# Altium integrated library TI Amplifiers and Linear Special Function Amplifier.IntLib: 708 symbols (part 45 of 47)
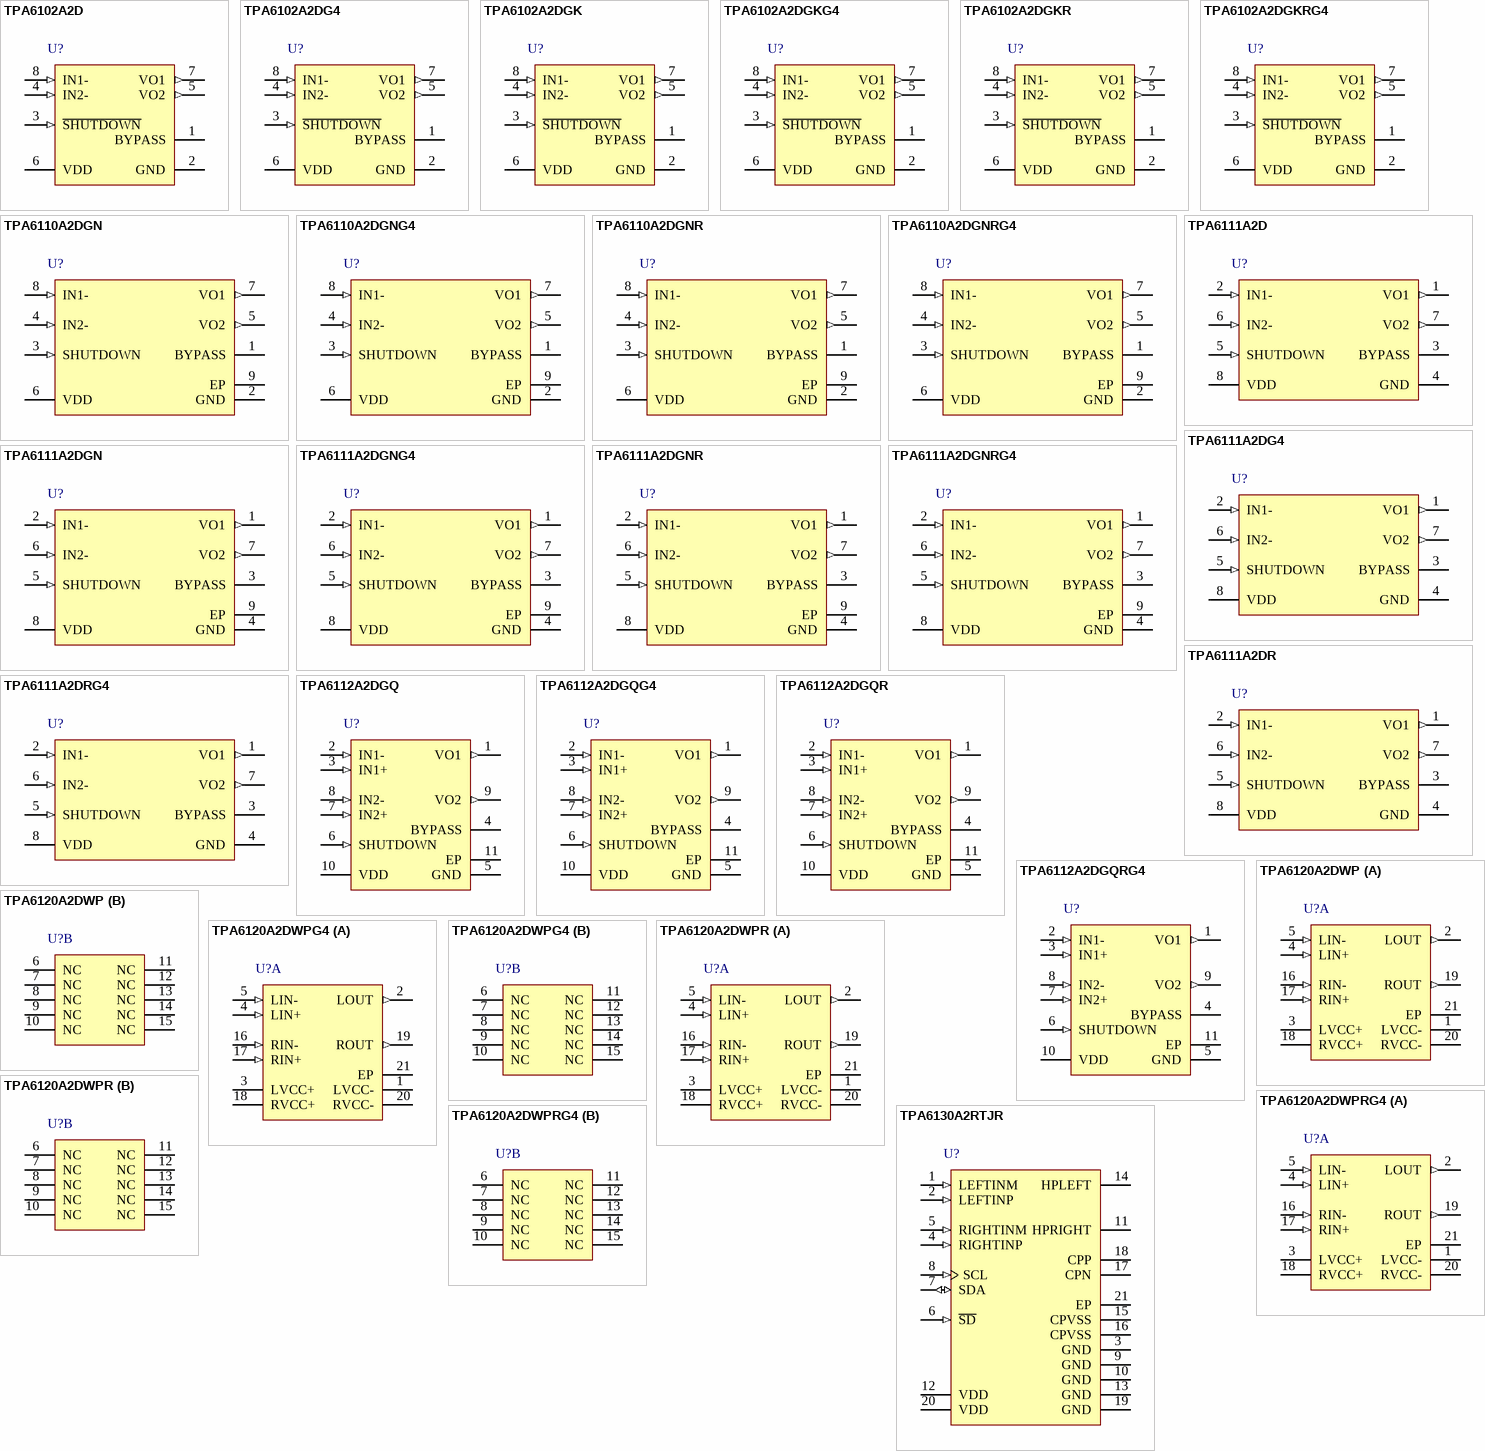
[diagram p83: symbols TPA6102A2D to TPA6130A2RTJR]

## TPA6130A2RTJR
designator U?
138-mW DirectPath(TM) Stereo Headphone Amplifier with I2C Volume Control, -40 to 85 degC, 20-pin QFN (RTJ20), Green (RoHS & no Sb/Br); Manufacturer: Texas Instruments; PartNumber: TPA6130A2RTJR; Ground-Centered Outputs: Yes; Half Power THD + N @ 1 kHz (%)(kHz): 0.0055; ISD(uA): 0.4; Load(Min)(ohms): 16; Output Power(W): 0.138; PSRR(dB): -109; Supply Max(Max)(Volt): 5.5; Supply Min(Min)(Volt): 2.5; DatasheetVersion: SLOS488B; PackageVersion: 4205505/F, 07/2011; PackageReference: RTJ20-2700X2700TP; PackageDescription: 20-pin Plastic Flat Pack, Body 4 x 4 mm, Pitch 0.5 mm; Supplier 1: Digi-Key; Supplier Part Number 1: 296-21656-2-ND; Supplier 2: Digi-Key; Supplier Part Number 2: 296-21656-1-ND; Supplier 3: Digi-Key; Supplier Part Number 3: 296-21656-6-ND; Supplier 4: Farnell; Supplier Part Number 4: 1697156; Supplier 5: Newark; Supplier Part Number 5: 34M0132; Supplier 6: Newark; Supplier Part Number 6: 28X4490; Supplier 7: Mouser; Supplier Part Number 7: 595-TPA6130A2RTJR; Eco-Plan: Green (RoHS & no Sb/Br); Headphone Channels: Stereo; SubFamily: Headphone Amplifier; Volume Control: Yes; Mounting Technology: Surface Mount; ComponentLink1Description: Manufacturer URL; ComponentLink1URL: http://www.ti.com/; ComponentLink2Description: Datasheet; ComponentLink2URL: http://www.ti.com/general/docs/lit/getliterature.tsp?genericPartNumber=TPA6130A2&fileType=pdf; ComponentLink3Description: Package Specification; ComponentLink3URL: http://www.ti.com/litv/pdf/mpqf156e
footprint TI-RTJ20-2700X2700TP_V (QFN, 20-Leads, Body 4x4mm, Pitch 0.5mm, Thermal Pad 2.7x2.7mm)
pins: 1 LEFTINM (in) "Left channel negative differential input. Impedance must be matched to LEFTINP. Connect the left input to LEFTINM when using single-ended inputs.", 2 LEFTINP (in) "Left channel positive differential input. Impedance must be matched to LEFTINM. AC ground LEFTINP near signal source while maintaining matched impedance to LEFTINM when using single-ended inputs.", 3 GND (power) "Analog ground. Must be connected to common supply GND. It is recommended that this pin be used to decouple VDD for analog. Use pin 13 to decouple pin 12 on the QFN package.", 4 RIGHTINP (in) "Right channel positive differential input. Impedance must be matched to RIGHTINM. AC ground RIGHTINP near signal source while maintaining matched impedance to RIGHTINM when using single-ended inputs.", 5 RIGHTINM (in) "Right channel negative differential input. Impedance must be matched to RIGHTINP. Connect the right input to RIGHTINM when using single-ended inputs.", 6 ~{SD} (in) "Shutdown. Active low logic. 5V tolerant input.", 7 SDA (io) "SDA - I2C Data. 5V tolerant input.", 8 SCL (in) "SCL - I2C Clock. 5V tolerant input.", 9 GND (power) "Analog ground. Must be connected to common supply GND. It is recommended that this pin be used to decouple VDD for analog. Use pin 13 to decouple pin 12 on the QFN package.", 10 GND (power) "Analog ground. Must be connected to common supply GND. It is recommended that this pin be used to decouple VDD for analog. Use pin 13 to decouple pin 12 on the QFN package.", 11 HPRIGHT (hiz) "Headphone light channel output. Connect to the right terminal of the headphone jack.", 12 VDD (power) "Analog VDD. VDD must be connected to common VDD supply. Decouple with its own 1-uf capacitor to analog ground (pin 13 on the QFN).", 13 GND (power) "Analog ground. Must be connected to common supply GND. It is recommended that this pin be used to decouple VDD for analog. Use pin 13 to decouple pin 12 on the QFN package.", 14 HPLEFT (hiz) "Headphone left channel output. Connect to left terminal of headphone jack.", 15 CPVSS (power) "Negative supply generated by the charge pump. Decouple to pin 19 on the QFN or a GND plane. Use a 1 uF capacitor.", 16 CPVSS (power) "Negative supply generated by the charge pump. Decouple to pin 19 on the QFN or a GND plane. Use a 1 uF capacitor.", 17 CPN "Charge pump flying capacitor negative terminal. Connect one side of the flying capacitor to CPN.", 18 CPP "Charge pump flying capacitor positive terminal. Connect one side of the flying capacitor to CPP.", 19 GND (power) "Charge pump ground. GND must be connected to common supply GND. It is recommended that this pin be decoupled to the VDD of the charge pump pin (pin 20 on the QFN).", 20 VDD (power) "Charge pump voltage supply. VDD must be connected to the common VDD voltage supply. Decouple to GND (pin 19 on the QFN) with its own 1 uF capacitor.", 21 EP (power) "Solder the thermal pad on the bottom of the QFN package to the GND plane of the PCB. It is required for mechanical stability and will enhance thermal performance."

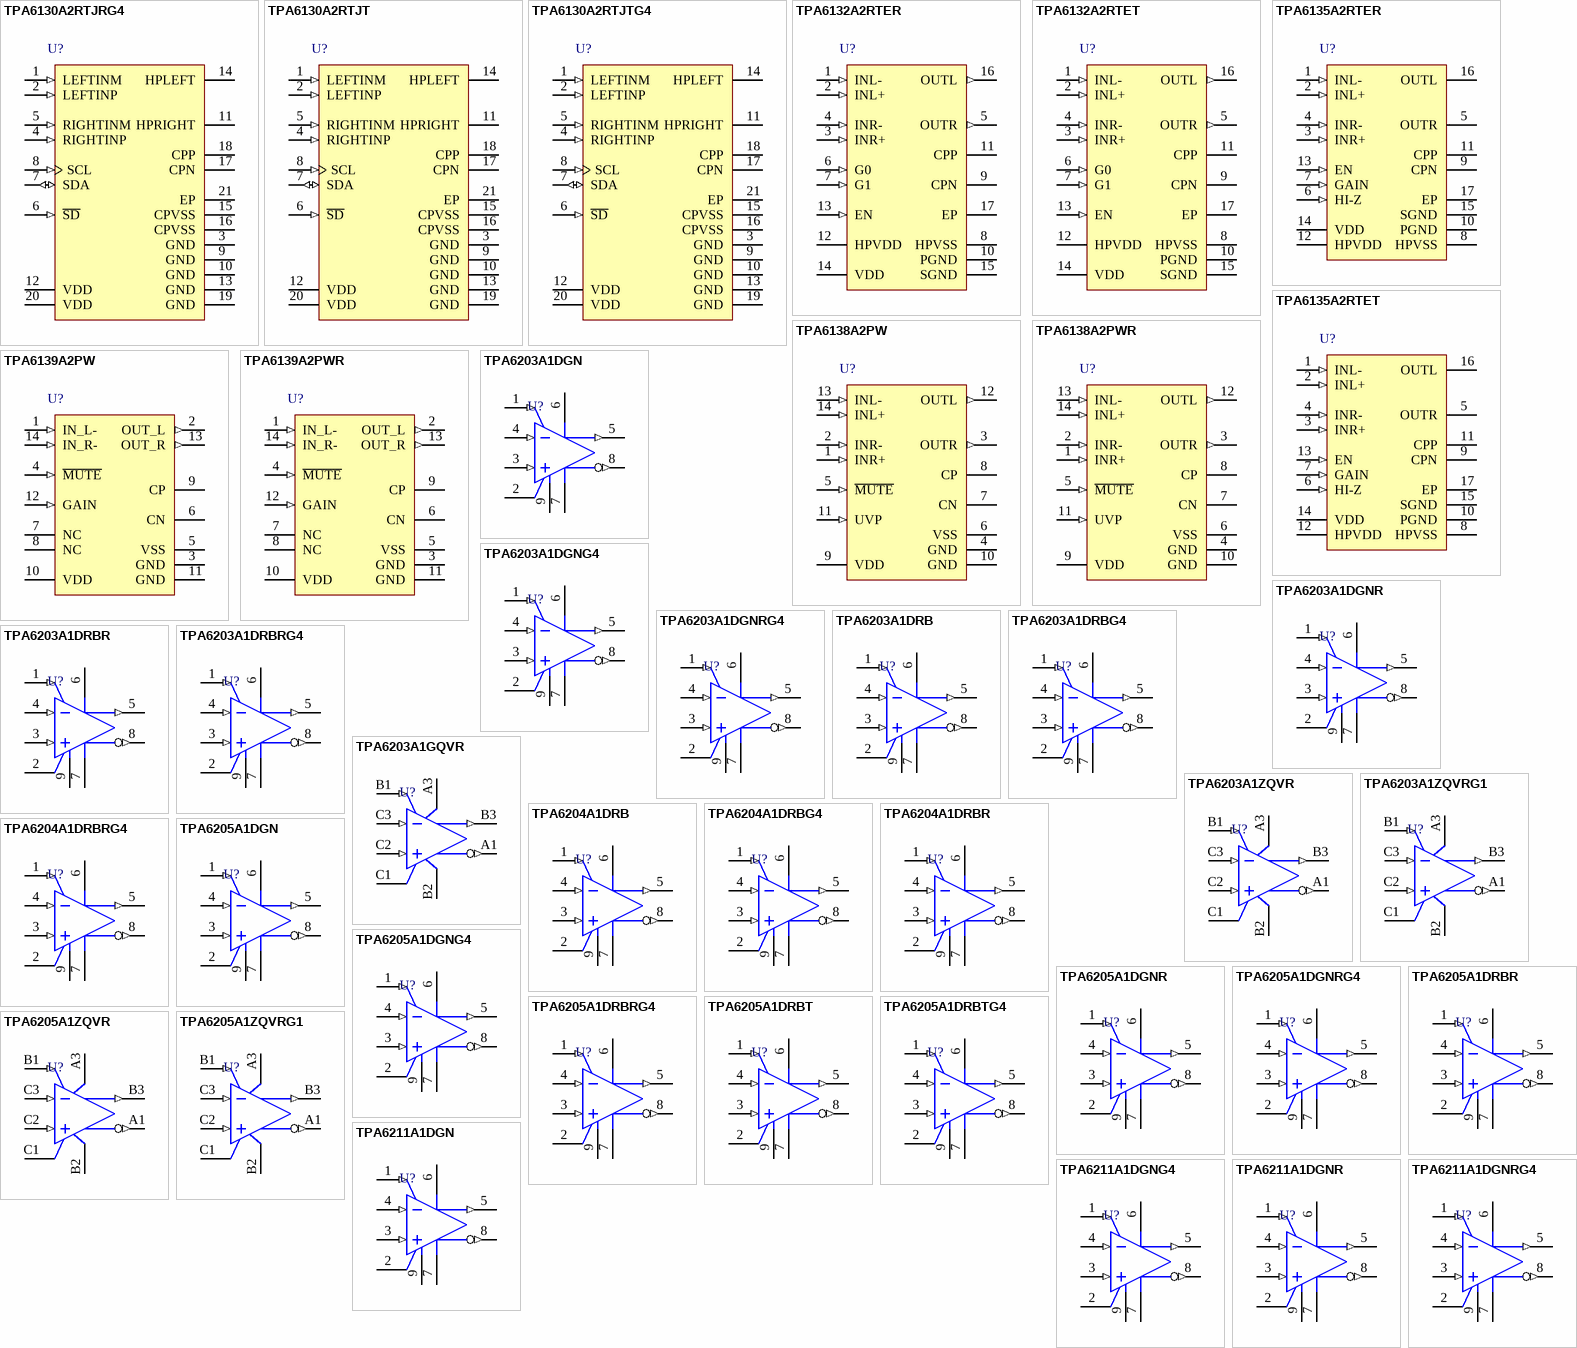
[diagram p38: symbols TPA6130A2RTJRG4 to TPA6211A1DGNRG4]

## TPA6130A2RTJRG4
designator U?
138-mW DirectPath(TM) Stereo Headphone Amplifier with I2C Volume Control, -40 to 85 degC, 20-pin QFN (RTJ20), Green (RoHS & no Sb/Br); Manufacturer: Texas Instruments; PartNumber: TPA6130A2RTJRG4; Ground-Centered Outputs: Yes; Half Power THD + N @ 1 kHz (%)(kHz): 0.0055; ISD(uA): 0.4; Load(Min)(ohms): 16; Output Power(W): 0.138; PSRR(dB): -109; Supply Max(Max)(Volt): 5.5; Supply Min(Min)(Volt): 2.5; DatasheetVersion: SLOS488B; PackageVersion: 4205505/F, 07/2011; PackageReference: RTJ20-2700X2700TP; PackageDescription: 20-pin Plastic Flat Pack, Body 4 x 4 mm, Pitch 0.5 mm; Supplier 1: Digi-Key; Supplier Part Number 1: TPA6130A2RTJRG4-ND; Supplier 2: Newark; Supplier Part Number 2: 41M5837; Supplier 3: Mouser; Supplier Part Number 3: 595-TPA6130A2RTJRG4; Eco-Plan: Green (RoHS & no Sb/Br); Headphone Channels: Stereo; SubFamily: Headphone Amplifier; Volume Control: Yes; Mounting Technology: Surface Mount; ComponentLink1Description: Manufacturer URL; ComponentLink1URL: http://www.ti.com/; ComponentLink2Description: Datasheet; ComponentLink2URL: http://www.ti.com/general/docs/lit/getliterature.tsp?genericPartNumber=TPA6130A2&fileType=pdf; ComponentLink3Description: Package Specification; ComponentLink3URL: http://www.ti.com/litv/pdf/mpqf156e
footprint TI-RTJ20-2700X2700TP_V (QFN, 20-Leads, Body 4x4mm, Pitch 0.5mm, Thermal Pad 2.7x2.7mm)
pins: 1 LEFTINM (in) "Left channel negative differential input. Impedance must be matched to LEFTINP. Connect the left input to LEFTINM when using single-ended inputs.", 2 LEFTINP (in) "Left channel positive differential input. Impedance must be matched to LEFTINM. AC ground LEFTINP near signal source while maintaining matched impedance to LEFTINM when using single-ended inputs.", 3 GND (power) "Analog ground. Must be connected to common supply GND. It is recommended that this pin be used to decouple VDD for analog. Use pin 13 to decouple pin 12 on the QFN package.", 4 RIGHTINP (in) "Right channel positive differential input. Impedance must be matched to RIGHTINM. AC ground RIGHTINP near signal source while maintaining matched impedance to RIGHTINM when using single-ended inputs.", 5 RIGHTINM (in) "Right channel negative differential input. Impedance must be matched to RIGHTINP. Connect the right input to RIGHTINM when using single-ended inputs.", 6 ~{SD} (in) "Shutdown. Active low logic. 5V tolerant input.", 7 SDA (io) "SDA - I2C Data. 5V tolerant input.", 8 SCL (in) "SCL - I2C Clock. 5V tolerant input.", 9 GND (power) "Analog ground. Must be connected to common supply GND. It is recommended that this pin be used to decouple VDD for analog. Use pin 13 to decouple pin 12 on the QFN package.", 10 GND (power) "Analog ground. Must be connected to common supply GND. It is recommended that this pin be used to decouple VDD for analog. Use pin 13 to decouple pin 12 on the QFN package.", 11 HPRIGHT (hiz) "Headphone light channel output. Connect to the right terminal of the headphone jack.", 12 VDD (power) "Analog VDD. VDD must be connected to common VDD supply. Decouple with its own 1-uf capacitor to analog ground (pin 13 on the QFN).", 13 GND (power) "Analog ground. Must be connected to common supply GND. It is recommended that this pin be used to decouple VDD for analog. Use pin 13 to decouple pin 12 on the QFN package.", 14 HPLEFT (hiz) "Headphone left channel output. Connect to left terminal of headphone jack.", 15 CPVSS (power) "Negative supply generated by the charge pump. Decouple to pin 19 on the QFN or a GND plane. Use a 1 uF capacitor.", 16 CPVSS (power) "Negative supply generated by the charge pump. Decouple to pin 19 on the QFN or a GND plane. Use a 1 uF capacitor.", 17 CPN "Charge pump flying capacitor negative terminal. Connect one side of the flying capacitor to CPN.", 18 CPP "Charge pump flying capacitor positive terminal. Connect one side of the flying capacitor to CPP.", 19 GND (power) "Charge pump ground. GND must be connected to common supply GND. It is recommended that this pin be decoupled to the VDD of the charge pump pin (pin 20 on the QFN).", 20 VDD (power) "Charge pump voltage supply. VDD must be connected to the common VDD voltage supply. Decouple to GND (pin 19 on the QFN) with its own 1 uF capacitor.", 21 EP (power) "Solder the thermal pad on the bottom of the QFN package to the GND plane of the PCB. It is required for mechanical stability and will enhance thermal performance."

## TPA6130A2RTJT
designator U?
138-mW DirectPath(TM) Stereo Headphone Amplifier with I2C Volume Control, -40 to 85 degC, 20-pin QFN (RTJ20), Green (RoHS & no Sb/Br); Manufacturer: Texas Instruments; PartNumber: TPA6130A2RTJT; Ground-Centered Outputs: Yes; Half Power THD + N @ 1 kHz (%)(kHz): 0.0055; ISD(uA): 0.4; Load(Min)(ohms): 16; Output Power(W): 0.138; PSRR(dB): -109; Supply Max(Max)(Volt): 5.5; Supply Min(Min)(Volt): 2.5; DatasheetVersion: SLOS488B; PackageVersion: 4205505/F, 07/2011; PackageReference: RTJ20-2700X2700TP; PackageDescription: 20-pin Plastic Flat Pack, Body 4 x 4 mm, Pitch 0.5 mm; Supplier 1: Digi-Key; Supplier Part Number 1: TPA6130A2RTJT-ND; Supplier 2: Newark; Supplier Part Number 2: 34M0133; Supplier 3: Mouser; Supplier Part Number 3: 595-TPA6130A2RTJT; Eco-Plan: Green (RoHS & no Sb/Br); Headphone Channels: Stereo; SubFamily: Headphone Amplifier; Volume Control: Yes; Mounting Technology: Surface Mount; ComponentLink1Description: Manufacturer URL; ComponentLink1URL: http://www.ti.com/; ComponentLink2Description: Datasheet; ComponentLink2URL: http://www.ti.com/general/docs/lit/getliterature.tsp?genericPartNumber=TPA6130A2&fileType=pdf; ComponentLink3Description: Package Specification; ComponentLink3URL: http://www.ti.com/litv/pdf/mpqf156e
footprint TI-RTJ20-2700X2700TP_V (QFN, 20-Leads, Body 4x4mm, Pitch 0.5mm, Thermal Pad 2.7x2.7mm)
pins: 1 LEFTINM (in) "Left channel negative differential input. Impedance must be matched to LEFTINP. Connect the left input to LEFTINM when using single-ended inputs.", 2 LEFTINP (in) "Left channel positive differential input. Impedance must be matched to LEFTINM. AC ground LEFTINP near signal source while maintaining matched impedance to LEFTINM when using single-ended inputs.", 3 GND (power) "Analog ground. Must be connected to common supply GND. It is recommended that this pin be used to decouple VDD for analog. Use pin 13 to decouple pin 12 on the QFN package.", 4 RIGHTINP (in) "Right channel positive differential input. Impedance must be matched to RIGHTINM. AC ground RIGHTINP near signal source while maintaining matched impedance to RIGHTINM when using single-ended inputs.", 5 RIGHTINM (in) "Right channel negative differential input. Impedance must be matched to RIGHTINP. Connect the right input to RIGHTINM when using single-ended inputs.", 6 ~{SD} (in) "Shutdown. Active low logic. 5V tolerant input.", 7 SDA (io) "SDA - I2C Data. 5V tolerant input.", 8 SCL (in) "SCL - I2C Clock. 5V tolerant input.", 9 GND (power) "Analog ground. Must be connected to common supply GND. It is recommended that this pin be used to decouple VDD for analog. Use pin 13 to decouple pin 12 on the QFN package.", 10 GND (power) "Analog ground. Must be connected to common supply GND. It is recommended that this pin be used to decouple VDD for analog. Use pin 13 to decouple pin 12 on the QFN package.", 11 HPRIGHT (hiz) "Headphone light channel output. Connect to the right terminal of the headphone jack.", 12 VDD (power) "Analog VDD. VDD must be connected to common VDD supply. Decouple with its own 1-uf capacitor to analog ground (pin 13 on the QFN).", 13 GND (power) "Analog ground. Must be connected to common supply GND. It is recommended that this pin be used to decouple VDD for analog. Use pin 13 to decouple pin 12 on the QFN package.", 14 HPLEFT (hiz) "Headphone left channel output. Connect to left terminal of headphone jack.", 15 CPVSS (power) "Negative supply generated by the charge pump. Decouple to pin 19 on the QFN or a GND plane. Use a 1 uF capacitor.", 16 CPVSS (power) "Negative supply generated by the charge pump. Decouple to pin 19 on the QFN or a GND plane. Use a 1 uF capacitor.", 17 CPN "Charge pump flying capacitor negative terminal. Connect one side of the flying capacitor to CPN.", 18 CPP "Charge pump flying capacitor positive terminal. Connect one side of the flying capacitor to CPP.", 19 GND (power) "Charge pump ground. GND must be connected to common supply GND. It is recommended that this pin be decoupled to the VDD of the charge pump pin (pin 20 on the QFN).", 20 VDD (power) "Charge pump voltage supply. VDD must be connected to the common VDD voltage supply. Decouple to GND (pin 19 on the QFN) with its own 1 uF capacitor.", 21 EP (power) "Solder the thermal pad on the bottom of the QFN package to the GND plane of the PCB. It is required for mechanical stability and will enhance thermal performance."

## TPA6130A2RTJTG4
designator U?
138-mW DirectPath(TM) Stereo Headphone Amplifier with I2C Volume Control, -40 to 85 degC, 20-pin QFN (RTJ20), Green (RoHS & no Sb/Br); Manufacturer: Texas Instruments; PartNumber: TPA6130A2RTJTG4; Ground-Centered Outputs: Yes; Half Power THD + N @ 1 kHz (%)(kHz): 0.0055; ISD(uA): 0.4; Load(Min)(ohms): 16; Output Power(W): 0.138; PSRR(dB): -109; Supply Max(Max)(Volt): 5.5; Supply Min(Min)(Volt): 2.5; DatasheetVersion: SLOS488B; PackageVersion: 4205505/F, 07/2011; PackageReference: RTJ20-2700X2700TP; PackageDescription: 20-pin Plastic Flat Pack, Body 4 x 4 mm, Pitch 0.5 mm; Supplier 1: Digi-Key; Supplier Part Number 1: TPA6130A2RTJTG4-ND; Supplier 2: Mouser; Supplier Part Number 2: 595-TPA6130A2RTJTG4; Eco-Plan: Green (RoHS & no Sb/Br); Headphone Channels: Stereo; SubFamily: Headphone Amplifier; Volume Control: Yes; Mounting Technology: Surface Mount; ComponentLink1Description: Manufacturer URL; ComponentLink1URL: http://www.ti.com/; ComponentLink2Description: Datasheet; ComponentLink2URL: http://www.ti.com/general/docs/lit/getliterature.tsp?genericPartNumber=TPA6130A2&fileType=pdf; ComponentLink3Description: Package Specification; ComponentLink3URL: http://www.ti.com/litv/pdf/mpqf156e
footprint TI-RTJ20-2700X2700TP_V (QFN, 20-Leads, Body 4x4mm, Pitch 0.5mm, Thermal Pad 2.7x2.7mm)
pins: 1 LEFTINM (in) "Left channel negative differential input. Impedance must be matched to LEFTINP. Connect the left input to LEFTINM when using single-ended inputs.", 2 LEFTINP (in) "Left channel positive differential input. Impedance must be matched to LEFTINM. AC ground LEFTINP near signal source while maintaining matched impedance to LEFTINM when using single-ended inputs.", 3 GND (power) "Analog ground. Must be connected to common supply GND. It is recommended that this pin be used to decouple VDD for analog. Use pin 13 to decouple pin 12 on the QFN package.", 4 RIGHTINP (in) "Right channel positive differential input. Impedance must be matched to RIGHTINM. AC ground RIGHTINP near signal source while maintaining matched impedance to RIGHTINM when using single-ended inputs.", 5 RIGHTINM (in) "Right channel negative differential input. Impedance must be matched to RIGHTINP. Connect the right input to RIGHTINM when using single-ended inputs.", 6 ~{SD} (in) "Shutdown. Active low logic. 5V tolerant input.", 7 SDA (io) "SDA - I2C Data. 5V tolerant input.", 8 SCL (in) "SCL - I2C Clock. 5V tolerant input.", 9 GND (power) "Analog ground. Must be connected to common supply GND. It is recommended that this pin be used to decouple VDD for analog. Use pin 13 to decouple pin 12 on the QFN package.", 10 GND (power) "Analog ground. Must be connected to common supply GND. It is recommended that this pin be used to decouple VDD for analog. Use pin 13 to decouple pin 12 on the QFN package.", 11 HPRIGHT (hiz) "Headphone light channel output. Connect to the right terminal of the headphone jack.", 12 VDD (power) "Analog VDD. VDD must be connected to common VDD supply. Decouple with its own 1-uf capacitor to analog ground (pin 13 on the QFN).", 13 GND (power) "Analog ground. Must be connected to common supply GND. It is recommended that this pin be used to decouple VDD for analog. Use pin 13 to decouple pin 12 on the QFN package.", 14 HPLEFT (hiz) "Headphone left channel output. Connect to left terminal of headphone jack.", 15 CPVSS (power) "Negative supply generated by the charge pump. Decouple to pin 19 on the QFN or a GND plane. Use a 1 uF capacitor.", 16 CPVSS (power) "Negative supply generated by the charge pump. Decouple to pin 19 on the QFN or a GND plane. Use a 1 uF capacitor.", 17 CPN "Charge pump flying capacitor negative terminal. Connect one side of the flying capacitor to CPN.", 18 CPP "Charge pump flying capacitor positive terminal. Connect one side of the flying capacitor to CPP.", 19 GND (power) "Charge pump ground. GND must be connected to common supply GND. It is recommended that this pin be decoupled to the VDD of the charge pump pin (pin 20 on the QFN).", 20 VDD (power) "Charge pump voltage supply. VDD must be connected to the common VDD voltage supply. Decouple to GND (pin 19 on the QFN) with its own 1 uF capacitor.", 21 EP (power) "Solder the thermal pad on the bottom of the QFN package to the GND plane of the PCB. It is required for mechanical stability and will enhance thermal performance."

## TPA6132A2RTER
designator U?
25-mW DirectPath(TM) Stereo Headphone Amplifier with Pop Suppression, -40 to 85 degC, 16-pin QFN (RTE16), Green (RoHS & no Sb/Br); Manufacturer: Texas Instruments; PartNumber: TPA6132A2RTER; Ground-Centered Outputs: Yes; Half Power THD + N @ 1 kHz (%)(kHz): 0.01; ISD(uA): 0.7; Load(Min)(ohms): 16; Output Power(W): 0.025; PSRR(dB): 100; Special Features: Gain Select; Supply Max(Max)(Volt): 5.5; Supply Min(Min)(Volt): 2.3; DatasheetVersion: SLOS597; PackageVersion: 4205254/D, 01/2011; PackageReference: RTE16-1700X1700TP; PackageDescription: 16-Pin Plastic Flat Pack, Body 3 x 3 mm, Pitch 0.5 mm; Supplier 1: Digi-Key; Supplier Part Number 1: 296-24053-2-ND; Supplier 2: Digi-Key; Supplier Part Number 2: 296-24053-1-ND; Supplier 3: Digi-Key; Supplier Part Number 3: 296-24053-6-ND; Supplier 4: Newark; Supplier Part Number 4: 45P8247; Supplier 5: Mouser; Supplier Part Number 5: 595-TPA6132A2RTER; Eco-Plan: Green (RoHS & no Sb/Br); Headphone Channels: Stereo; SubFamily: Headphone Amplifier; Mounting Technology: Surface Mount; Code_JEDEC: MO-220; ComponentLink1Description: Manufacturer URL; ComponentLink1URL: http://www.ti.com/; ComponentLink2Description: Datasheet; ComponentLink2URL: http://www.ti.com/general/docs/lit/getliterature.tsp?genericPartNumber=TPA6132A2&fileType=pdf; ComponentLink3Description: Package Specification; ComponentLink3URL: http://www.ti.com/litv/pdf/mpqf149c
footprint TI-RTE16-1700X1700TP_V (QFN, 16-Leads, Body 3x3mm, Pitch 0.5mm, Thermal Pad 1.7x1.7mm)
pins: 1 INL- (in) "Inverting left input for differential signals; left input for single-ended signals", 2 INL+ (in) "Non-inverting left input for differential signals. Connect to ground for single-ended input applications", 3 INR+ (in) "Non-inverting right input for differential signals. Connect to ground for single-ended input applications", 4 INR- (in) "Inverting right input for differential signals; right input for single-ended signals", 5 OUTR (out) "Right headphone amplifier output. Connect to right terminal of headphone jack", 6 G0 (in) "Gain select", 7 G1 (in) "Gain select", 8 HPVSS (power) "Charge pump output and negative power supply for output amplifiers; connect 1uF capacitor to GND", 9 CPN "Charge pump negative flying cap. Connect to negative side of 1uF capacitor between CPP and CPN", 10 PGND (power) "Ground", 11 CPP "Charge pump positive flying cap. Connect to positive side of 1uF capacitor between CPP and CPN", 12 HPVDD (power) "Positive power supply for headphone amplifiers. Connect to a 2.2uF capacitor. Do not connect to VDD", 13 EN (in) "Amplifier enable. Connect to logic low to shutdown; connect to logic high to activate", 14 VDD (power) "Positive power supply for TPA6132A2", 15 SGND (power) "Amplifier reference voltage. Connect to ground terminal of headphone jack", 16 OUTL (out) "Left headphone amplifier output. Connect to left terminal of headphone jack", 17 EP (power) "Solder the exposed metal pad on the TPA6132A2RTE QFN package to the landing pad on the PCB. Connect the landing pad to ground or leave it electrically unconnected (floating)."

## TPA6132A2RTET
designator U?
25-mW DirectPath(TM) Stereo Headphone Amplifier with Pop Suppression, -40 to 85 degC, 16-pin QFN (RTE16), Green (RoHS & no Sb/Br); Manufacturer: Texas Instruments; PartNumber: TPA6132A2RTET; Ground-Centered Outputs: Yes; Half Power THD + N @ 1 kHz (%)(kHz): 0.01; ISD(uA): 0.7; Load(Min)(ohms): 16; Output Power(W): 0.025; PSRR(dB): 100; Special Features: Gain Select; Supply Max(Max)(Volt): 5.5; Supply Min(Min)(Volt): 2.3; DatasheetVersion: SLOS597; PackageVersion: 4205254/D, 01/2011; PackageReference: RTE16-1700X1700TP; PackageDescription: 16-Pin Plastic Flat Pack, Body 3 x 3 mm, Pitch 0.5 mm; Supplier 1: Digi-Key; Supplier Part Number 1: 296-27194-2-ND; Supplier 2: Digi-Key; Supplier Part Number 2: 296-27194-1-ND; Supplier 3: Digi-Key; Supplier Part Number 3: 296-27194-6-ND; Supplier 4: Newark; Supplier Part Number 4: 46P3781; Supplier 5: Mouser; Supplier Part Number 5: 595-TPA6132A2RTET; Eco-Plan: Green (RoHS & no Sb/Br); Headphone Channels: Stereo; SubFamily: Headphone Amplifier; Mounting Technology: Surface Mount; Code_JEDEC: MO-220; ComponentLink1Description: Manufacturer URL; ComponentLink1URL: http://www.ti.com/; ComponentLink2Description: Datasheet; ComponentLink2URL: http://www.ti.com/general/docs/lit/getliterature.tsp?genericPartNumber=TPA6132A2&fileType=pdf; ComponentLink3Description: Package Specification; ComponentLink3URL: http://www.ti.com/litv/pdf/mpqf149c
footprint TI-RTE16-1700X1700TP_V (QFN, 16-Leads, Body 3x3mm, Pitch 0.5mm, Thermal Pad 1.7x1.7mm)
pins: 1 INL- (in) "Inverting left input for differential signals; left input for single-ended signals", 2 INL+ (in) "Non-inverting left input for differential signals. Connect to ground for single-ended input applications", 3 INR+ (in) "Non-inverting right input for differential signals. Connect to ground for single-ended input applications", 4 INR- (in) "Inverting right input for differential signals; right input for single-ended signals", 5 OUTR (out) "Right headphone amplifier output. Connect to right terminal of headphone jack", 6 G0 (in) "Gain select", 7 G1 (in) "Gain select", 8 HPVSS (power) "Charge pump output and negative power supply for output amplifiers; connect 1uF capacitor to GND", 9 CPN "Charge pump negative flying cap. Connect to negative side of 1uF capacitor between CPP and CPN", 10 PGND (power) "Ground", 11 CPP "Charge pump positive flying cap. Connect to positive side of 1uF capacitor between CPP and CPN", 12 HPVDD (power) "Positive power supply for headphone amplifiers. Connect to a 2.2uF capacitor. Do not connect to VDD", 13 EN (in) "Amplifier enable. Connect to logic low to shutdown; connect to logic high to activate", 14 VDD (power) "Positive power supply for TPA6132A2", 15 SGND (power) "Amplifier reference voltage. Connect to ground terminal of headphone jack", 16 OUTL (out) "Left headphone amplifier output. Connect to left terminal of headphone jack", 17 EP (power) "Solder the exposed metal pad on the TPA6132A2RTE QFN package to the landing pad on the PCB. Connect the landing pad to ground or leave it electrically unconnected (floating)."

## TPA6135A2RTER
designator U?
25-mW DirectPath(TM) Stereo Headphone Amplifier with Pop Suppression with Hi-Z mode, -40 to 85 degC, 16-pin QFN (RTE16), Green (RoHS & no Sb/Br); Manufacturer: Texas Instruments; PartNumber: TPA6135A2RTER; Ground-Centered Outputs: Yes; Half Power THD + N @ 1 kHz (%)(kHz): 0.01; ISD(uA): 0.7; Load(Min)(ohms): 16; Output Power(W): 0.025; PSRR(dB): 100; Special Features: Gain Select; Supply Max(Max)(Volt): 5.5; Supply Min(Min)(Volt): 2.3; DatasheetVersion: SLOS623A; PackageVersion: 4205254/D, 01/2011; PackageReference: RTE16-1700X1700TP; PackageDescription: 16-Pin Plastic Flat Pack, Body 3 x 3 mm, Pitch 0.5 mm; Supplier 1: Digi-Key; Supplier Part Number 1: 296-24218-2-ND; Supplier 2: Digi-Key; Supplier Part Number 2: 296-24218-1-ND; Supplier 3: Digi-Key; Supplier Part Number 3: 296-24218-6-ND; Supplier 4: Mouser; Supplier Part Number 4: 595-TPA6135A2RTER; Eco-Plan: Green (RoHS & no Sb/Br); Headphone Channels: Stereo; SubFamily: Headphone Amplifier; Mounting Technology: Surface Mount; Code_JEDEC: MO-220; ComponentLink1Description: Manufacturer URL; ComponentLink1URL: http://www.ti.com/; ComponentLink2Description: Datasheet; ComponentLink2URL: http://www.ti.com/general/docs/lit/getliterature.tsp?genericPartNumber=TPA6135A2&fileType=pdf; ComponentLink3Description: Package Specification; ComponentLink3URL: http://www.ti.com/litv/pdf/mpqf149c
footprint TI-RTE16-1700X1700TP_V (QFN, 16-Leads, Body 3x3mm, Pitch 0.5mm, Thermal Pad 1.7x1.7mm)
pins: 1 INL- (in) "Inverting left input for differential signals; left input for single-ended signals", 2 INL+ (in) "Non-inverting left input for differential signals. Connect to ground for single-ended input applications", 3 INR+ (in) "Non-inverting right input for differential signals. Connect to ground for single-ended input applications", 4 INR- (in) "Inverting right input for differential signals; right input for single-ended signals", 5 OUTR (hiz) "Right headphone amplifier output. Connect to right terminal of headphone jack", 6 HI-Z (in) "Output impedance select. Set to logic LOW for normal operation and to logic HIGH for high output impedance", 7 GAIN (in) "Gain select. Set to logic LOW for a gain of 0dB and to logic HIGH for a gain of 6dB", 8 HPVSS (power) "Charge pump output and negative power supply for output amplifiers; connect 1uF capacitor to GND", 9 CPN "Charge pump negative flying cap. Connect to negative side of 1uF capacitor between CPP and CPN", 10 PGND (power) "Ground", 11 CPP "Charge pump positive flying cap. Connect to positive side of 1uF capacitor between CPP and CPN", 12 HPVDD (power) "Positive power supply for headphone amplifiers. Connect to a 2.2uF capacitor. Do not connect to VDD", 13 EN (in) "Amplifier enable. Connect to logic low to shutdown; connect to logic high to activate", 14 VDD (power) "Positive power supply for TPA6135A2", 15 SGND (power) "Amplifier reference voltage. Connect to ground terminal of headphone jack", 16 OUTL (hiz) "Left headphone amplifier output. Connect to left terminal of headphone jack", 17 EP (power) "Solder the exposed metal pad on the TPA6135A2RTE QFN package to the landing pad on the PCB. Connect the landing pad to ground or leave it electrically unconnected (floating)."

## TPA6135A2RTET
designator U?
25-mW DirectPath(TM) Stereo Headphone Amplifier with Pop Suppression with Hi-Z mode, -40 to 85 degC, 16-pin QFN (RTE16), Green (RoHS & no Sb/Br); Manufacturer: Texas Instruments; PartNumber: TPA6135A2RTET; Ground-Centered Outputs: Yes; Half Power THD + N @ 1 kHz (%)(kHz): 0.01; ISD(uA): 0.7; Load(Min)(ohms): 16; Output Power(W): 0.025; PSRR(dB): 100; Special Features: Gain Select; Supply Max(Max)(Volt): 5.5; Supply Min(Min)(Volt): 2.3; DatasheetVersion: SLOS623A; PackageVersion: 4205254/D, 01/2011; PackageReference: RTE16-1700X1700TP; PackageDescription: 16-Pin Plastic Flat Pack, Body 3 x 3 mm, Pitch 0.5 mm; Supplier 1: Digi-Key; Supplier Part Number 1: 296-32460-2-ND; Supplier 2: Digi-Key; Supplier Part Number 2: 296-32460-1-ND; Supplier 3: Digi-Key; Supplier Part Number 3: 296-32460-6-ND; Supplier 4: Newark; Supplier Part Number 4: 15R2513; Supplier 5: Newark; Supplier Part Number 5: 71P8446; Supplier 6: Mouser; Supplier Part Number 6: 595-TPA6135A2RTET; Eco-Plan: Green (RoHS & no Sb/Br); Headphone Channels: Stereo; SubFamily: Headphone Amplifier; Mounting Technology: Surface Mount; Code_JEDEC: MO-220; ComponentLink1Description: Manufacturer URL; ComponentLink1URL: http://www.ti.com/; ComponentLink2Description: Datasheet; ComponentLink2URL: http://www.ti.com/general/docs/lit/getliterature.tsp?genericPartNumber=TPA6135A2&fileType=pdf; ComponentLink3Description: Package Specification; ComponentLink3URL: http://www.ti.com/litv/pdf/mpqf149c
footprint TI-RTE16-1700X1700TP_V (QFN, 16-Leads, Body 3x3mm, Pitch 0.5mm, Thermal Pad 1.7x1.7mm)
pins: 1 INL- (in) "Inverting left input for differential signals; left input for single-ended signals", 2 INL+ (in) "Non-inverting left input for differential signals. Connect to ground for single-ended input applications", 3 INR+ (in) "Non-inverting right input for differential signals. Connect to ground for single-ended input applications", 4 INR- (in) "Inverting right input for differential signals; right input for single-ended signals", 5 OUTR (hiz) "Right headphone amplifier output. Connect to right terminal of headphone jack", 6 HI-Z (in) "Output impedance select. Set to logic LOW for normal operation and to logic HIGH for high output impedance", 7 GAIN (in) "Gain select. Set to logic LOW for a gain of 0dB and to logic HIGH for a gain of 6dB", 8 HPVSS (power) "Charge pump output and negative power supply for output amplifiers; connect 1uF capacitor to GND", 9 CPN "Charge pump negative flying cap. Connect to negative side of 1uF capacitor between CPP and CPN", 10 PGND (power) "Ground", 11 CPP "Charge pump positive flying cap. Connect to positive side of 1uF capacitor between CPP and CPN", 12 HPVDD (power) "Positive power supply for headphone amplifiers. Connect to a 2.2uF capacitor. Do not connect to VDD", 13 EN (in) "Amplifier enable. Connect to logic low to shutdown; connect to logic high to activate", 14 VDD (power) "Positive power supply for TPA6135A2", 15 SGND (power) "Amplifier reference voltage. Connect to ground terminal of headphone jack", 16 OUTL (hiz) "Left headphone amplifier output. Connect to left terminal of headphone jack", 17 EP (power) "Solder the exposed metal pad on the TPA6135A2RTE QFN package to the landing pad on the PCB. Connect the landing pad to ground or leave it electrically unconnected (floating)."

## TPA6138A2PW
designator U?
DirectPath(TM) Headphone Driver with Adjustable Gain, -40 to 85 degC, 14-pin SOP (PW14), Green (RoHS & no Sb/Br); Manufacturer: Texas Instruments; PartNumber: TPA6138A2PW; Ground-Centered Outputs: Yes; Half Power THD + N @ 1 kHz (%)(kHz): 0.01; Headphone Channels: Stereo; Load(Min)(ohms): 16; Output Power(W): 0.04; PSRR(dB): 80; SubFamily: Headphone Amplifier; Supply Max(Max)(Volt): 3.6; Supply Min(Min)(Volt): 3; DatasheetVersion: SLOS704A; PackageVersion: 4040064-3/G, 02/2011; PackageReference: PW14; PackageDescription: 14-Pin Plastic Small Outline, Body 5 x 4.4 mm, Pitch 0.65 mm; Supplier 1: Digi-Key; Supplier Part Number 1: 296-28254-ND; Supplier 2: Farnell; Supplier Part Number 2: 1872186; Supplier 3: Newark; Supplier Part Number 3: 27T6830; Supplier 4: Mouser; Supplier Part Number 4: 595-TPA6138A2PW; Eco-Plan: Green (RoHS & no Sb/Br); Special Features: Adjustable Gain; Mounting Technology: Surface Mount; Code_JEDEC: MO-153; ComponentLink1Description: Manufacturer URL; ComponentLink1URL: http://www.ti.com/; ComponentLink2Description: Datasheet; ComponentLink2URL: http://www.ti.com/general/docs/lit/getliterature.tsp?genericPartNumber=TPA6138A2&fileType=pdf; ComponentLink3Description: Package Specification; ComponentLink3URL: http://www.ti.com/litv/pdf/mpds360
footprint TI-PW14_N (SOP, 14-Leads, Body 5.1x4.5mm, Pitch 0.65mm, IPC Medium Density)
footprint TI-PW14_L (SOP, 14-Leads, Body 5.1x4.5mm, Pitch 0.65mm, IPC High Density)
footprint TI-PW14_M (SOP, 14-Leads, Body 5.1x4.5mm, Pitch 0.65mm, IPC Low Density)
pins: 1 INR+ (in) "Right-channel OPAMP positive input", 2 INR- (in) "Right-channel OPAMP negative input", 3 OUTR (out) "Right-channel OPAMP output", 4 GND (power) "Ground", 5 ~{MUTE} (in) "Mute, active-low", 6 VSS (power) "Supply voltage", 7 CN "Charge-pump flying capacitor negative connection", 8 CP "Charge-pump flying capacitor positive connection", 9 VDD (power) "Positive supply", 10 GND (power) "Ground", 11 UVP (in) "Undervoltage protection; internal pull-up, unconnected if UVP function is unused.", 12 OUTL (out) "Left-channel OPAMP output", 13 INL- (in) "Left-channel OPAMP negative input", 14 INL+ (in) "Left-channel OPAMP positive input"

## TPA6138A2PWR
designator U?
DirectPath(TM) Headphone Driver with Adjustable Gain, -40 to 85 degC, 14-pin SOP (PW14), Green (RoHS & no Sb/Br); Manufacturer: Texas Instruments; PartNumber: TPA6138A2PWR; Ground-Centered Outputs: Yes; Half Power THD + N @ 1 kHz (%)(kHz): 0.01; Headphone Channels: Stereo; Load(Min)(ohms): 16; Output Power(W): 0.04; PSRR(dB): 80; SubFamily: Headphone Amplifier; Supply Max(Max)(Volt): 3.6; Supply Min(Min)(Volt): 3; DatasheetVersion: SLOS704A; PackageVersion: 4040064-3/G, 02/2011; PackageReference: PW14; PackageDescription: 14-Pin Plastic Small Outline, Body 5 x 4.4 mm, Pitch 0.65 mm; Supplier 1: Digi-Key; Supplier Part Number 1: 296-28248-2-ND; Supplier 2: Digi-Key; Supplier Part Number 2: 296-28248-1-ND; Supplier 3: Digi-Key; Supplier Part Number 3: 296-28248-6-ND; Supplier 4: Mouser; Supplier Part Number 4: 595-TPA6138A2PWR; Eco-Plan: Green (RoHS & no Sb/Br); Special Features: Adjustable Gain; Mounting Technology: Surface Mount; Code_JEDEC: MO-153; ComponentLink1Description: Manufacturer URL; ComponentLink1URL: http://www.ti.com/; ComponentLink2Description: Datasheet; ComponentLink2URL: http://www.ti.com/general/docs/lit/getliterature.tsp?genericPartNumber=TPA6138A2&fileType=pdf; ComponentLink3Description: Package Specification; ComponentLink3URL: http://www.ti.com/litv/pdf/mpds360
footprint TI-PW14_N (SOP, 14-Leads, Body 5.1x4.5mm, Pitch 0.65mm, IPC Medium Density)
footprint TI-PW14_L (SOP, 14-Leads, Body 5.1x4.5mm, Pitch 0.65mm, IPC High Density)
footprint TI-PW14_M (SOP, 14-Leads, Body 5.1x4.5mm, Pitch 0.65mm, IPC Low Density)
pins: 1 INR+ (in) "Right-channel OPAMP positive input", 2 INR- (in) "Right-channel OPAMP negative input", 3 OUTR (out) "Right-channel OPAMP output", 4 GND (power) "Ground", 5 ~{MUTE} (in) "Mute, active-low", 6 VSS (power) "Supply voltage", 7 CN "Charge-pump flying capacitor negative connection", 8 CP "Charge-pump flying capacitor positive connection", 9 VDD (power) "Positive supply", 10 GND (power) "Ground", 11 UVP (in) "Undervoltage protection; internal pull-up, unconnected if UVP function is unused.", 12 OUTL (out) "Left-channel OPAMP output", 13 INL- (in) "Left-channel OPAMP negative input", 14 INL+ (in) "Left-channel OPAMP positive input"

## TPA6139A2PW
designator U?
DirectPath(TM) 25 mW Headphone Amplifier, -40 to 85 degC, 14-pin SOP (PW14), Green (RoHS & no Sb/Br); Manufacturer: Texas Instruments; PartNumber: TPA6139A2PW; Ground-Centered Outputs: Yes; Half Power THD + N @ 1 kHz (%)(kHz): 0.03; Headphone Channels: Stereo; Output Power(W): 0.025; PSRR(dB): 80; Special Features: Programmable Gain; Supply Max(Max)(Volt): 3.6; Supply Min(Min)(Volt): 3; DatasheetVersion: SLOS700B; PackageVersion: 4040064-3/G, 02/2011; PackageReference: PW14; PackageDescription: 14-Pin Plastic Small Outline, Body 5 x 4.4 mm, Pitch 0.65 mm; Supplier 1: Digi-Key; Supplier Part Number 1: 296-28255-ND; Supplier 2: Farnell; Supplier Part Number 2: 1872188; Supplier 3: Newark; Supplier Part Number 3: 27T6833; Supplier 4: Mouser; Supplier Part Number 4: 595-TPA6139A2PW; Eco-Plan: Green (RoHS & no Sb/Br); SubFamily: Headphone Amplifier; Mounting Technology: Surface Mount; Code_JEDEC: MO-153; ComponentLink1Description: Manufacturer URL; ComponentLink1URL: http://www.ti.com/; ComponentLink2Description: Datasheet; ComponentLink2URL: http://www.ti.com/general/docs/lit/getliterature.tsp?genericPartNumber=TPA6139A2&fileType=pdf; ComponentLink3Description: Package Specification; ComponentLink3URL: http://www.ti.com/litv/pdf/mpds360
footprint TI-PW14_N (SOP, 14-Leads, Body 5.1x4.5mm, Pitch 0.65mm, IPC Medium Density)
footprint TI-PW14_L (SOP, 14-Leads, Body 5.1x4.5mm, Pitch 0.65mm, IPC High Density)
footprint TI-PW14_M (SOP, 14-Leads, Body 5.1x4.5mm, Pitch 0.65mm, IPC Low Density)
pins: 1 IN_L- (in) "Negative input, left channel", 2 OUT_L (out) "Output, left channel", 3 GND (power) "Ground", 4 ~{MUTE} (in) "MUTE, active low", 5 VSS (power) "Change Pump negative supply voltage", 6 CN "Charge Pump flying capacitor negative connection", 7 NC "No internal connection", 8 NC "No internal connection", 9 CP "Charge Pump flying capacitor positive connection", 10 VDD (power) "Supply voltage, connect to positive supply", 11 GND (power) "Ground", 12 GAIN (in) "Gain set programming pin; connect a resistor to ground.", 13 OUT_R (out) "Output, right channel", 14 IN_R- (in) "Negative input, right channel"

## TPA6139A2PWR
designator U?
DirectPath(TM) 25 mW Headphone Amplifier, -40 to 85 degC, 14-pin SOP (PW14), Green (RoHS & no Sb/Br); Manufacturer: Texas Instruments; PartNumber: TPA6139A2PWR; Ground-Centered Outputs: Yes; Half Power THD + N @ 1 kHz (%)(kHz): 0.03; Headphone Channels: Stereo; Output Power(W): 0.025; PSRR(dB): 80; Special Features: Programmable Gain; Supply Max(Max)(Volt): 3.6; Supply Min(Min)(Volt): 3; DatasheetVersion: SLOS700B; PackageVersion: 4040064-3/G, 02/2011; PackageReference: PW14; PackageDescription: 14-Pin Plastic Small Outline, Body 5 x 4.4 mm, Pitch 0.65 mm; Supplier 1: Digi-Key; Supplier Part Number 1: 296-28249-2-ND; Supplier 2: Digi-Key; Supplier Part Number 2: 296-28249-1-ND; Supplier 3: Digi-Key; Supplier Part Number 3: 296-28249-6-ND; Supplier 4: Newark; Supplier Part Number 4: 27T6834; Supplier 5: Mouser; Supplier Part Number 5: 595-TPA6139A2PWR; Eco-Plan: Green (RoHS & no Sb/Br); SubFamily: Headphone Amplifier; Mounting Technology: Surface Mount; Code_JEDEC: MO-153; ComponentLink1Description: Manufacturer URL; ComponentLink1URL: http://www.ti.com/; ComponentLink2Description: Datasheet; ComponentLink2URL: http://www.ti.com/general/docs/lit/getliterature.tsp?genericPartNumber=TPA6139A2&fileType=pdf; ComponentLink3Description: Package Specification; ComponentLink3URL: http://www.ti.com/litv/pdf/mpds360
footprint TI-PW14_N (SOP, 14-Leads, Body 5.1x4.5mm, Pitch 0.65mm, IPC Medium Density)
footprint TI-PW14_L (SOP, 14-Leads, Body 5.1x4.5mm, Pitch 0.65mm, IPC High Density)
footprint TI-PW14_M (SOP, 14-Leads, Body 5.1x4.5mm, Pitch 0.65mm, IPC Low Density)
pins: 1 IN_L- (in) "Negative input, left channel", 2 OUT_L (out) "Output, left channel", 3 GND (power) "Ground", 4 ~{MUTE} (in) "MUTE, active low", 5 VSS (power) "Change Pump negative supply voltage", 6 CN "Charge Pump flying capacitor negative connection", 7 NC "No internal connection", 8 NC "No internal connection", 9 CP "Charge Pump flying capacitor positive connection", 10 VDD (power) "Supply voltage, connect to positive supply", 11 GND (power) "Ground", 12 GAIN (in) "Gain set programming pin; connect a resistor to ground.", 13 OUT_R (out) "Output, right channel", 14 IN_R- (in) "Negative input, right channel"

## TPA6203A1DGN
designator U?
1.25-W Mono, Fully Differential, Class-AB Audio Amplifier, -40 to 85 degC, 8-pin SOP (DGN8), Green (RoHS & no Sb/Br); Manufacturer: Texas Instruments; PartNumber: TPA6203A1DGN; Output Power(W): 1.25; PSRR(dB): -90; SubFamily: Dynamic Speaker; Supply Max(Max)(Volt): 5.5; Supply Min(Min)(Volt): 2.5; DatasheetVersion: SLOS364F; PackageVersion: 4073271/F, 05/2011; PackageReference: DGN8-1760X1425TP; PackageDescription: 8-Pin Plastic Small Outline, Body 3 x 3 mm, Pitch 0.65 mm; Supplier 1: Digi-Key; Supplier Part Number 1: 296-26888-5-ND; Supplier 2: Mouser; Supplier Part Number 2: 595-TPA6203A1DGN; Eco-Plan: Green (RoHS & no Sb/Br); Speaker Amp Type: Class-AB; Speaker Channels: Mono; Mounting Technology: Surface Mount; Code_JEDEC: MO-187; ComponentLink1Description: Manufacturer URL; ComponentLink1URL: http://www.ti.com/; ComponentLink2Description: Datasheet; ComponentLink2URL: http://www.ti.com/general/docs/lit/getliterature.tsp?genericPartNumber=TPA6203A1&fileType=pdf; ComponentLink3Description: Package Specification; ComponentLink3URL: http://www.ti.com/litv/pdf/mpds046e
footprint TI-DGN8-1760X1425TP_N (SOP, 8-Leads, Body 3.1x3.1mm, Pitch 0.65mm, Thermal Pad 1.89x1.57mm, IPC Medium Density)
footprint TI-DGN8-1760X1425TP_L (SOP, 8-Leads, Body 3.1x3.1mm, Pitch 0.65mm, Thermal Pad 1.89x1.57mm, IPC High Density)
footprint TI-DGN8-1760X1425TP_M (SOP, 8-Leads, Body 3.1x3.1mm, Pitch 0.65mm, Thermal Pad 1.89x1.57mm, IPC Low Density)
pins: 1 ~{SHUTDOWN} (in) "Shutdown terminal (active low logic)", 2 BYPASS "Mid-supply voltage. Adding a bypass capacitor improves PSRR.", 3 IN+ (in) "Positive differential input", 4 IN- (in) "Negative differential input", 5 VO+ (out) "Positive BTL output", 6 VDD (power) "Supply voltage terminal", 7 GND (power) "High-current ground", 8 VO- (out) "Negative BTL output", 9 EP (power) "Connect to ground. Thermal pad must be soldered down in all applications to properly secure device on the PCB."

## TPA6203A1DGNG4
designator U?
1.25-W Mono, Fully Differential, Class-AB Audio Amplifier, -40 to 85 degC, 8-pin SOP (DGN8), Green (RoHS & no Sb/Br); Manufacturer: Texas Instruments; PartNumber: TPA6203A1DGNG4; Output Power(W): 1.25; PSRR(dB): -90; SubFamily: Dynamic Speaker; Supply Max(Max)(Volt): 5.5; Supply Min(Min)(Volt): 2.5; DatasheetVersion: SLOS364F; PackageVersion: 4073271/F, 05/2011; PackageReference: DGN8-1760X1425TP; PackageDescription: 8-Pin Plastic Small Outline, Body 3 x 3 mm, Pitch 0.65 mm; Supplier 1: Digi-Key; Supplier Part Number 1: TPA6203A1DGNG4-ND; Supplier 2: Mouser; Supplier Part Number 2: 595-TPA6203A1DGNG4; Eco-Plan: Green (RoHS & no Sb/Br); Speaker Amp Type: Class-AB; Speaker Channels: Mono; Mounting Technology: Surface Mount; Code_JEDEC: MO-187; ComponentLink1Description: Manufacturer URL; ComponentLink1URL: http://www.ti.com/; ComponentLink2Description: Datasheet; ComponentLink2URL: http://www.ti.com/general/docs/lit/getliterature.tsp?genericPartNumber=TPA6203A1&fileType=pdf; ComponentLink3Description: Package Specification; ComponentLink3URL: http://www.ti.com/litv/pdf/mpds046e
footprint TI-DGN8-1760X1425TP_N (SOP, 8-Leads, Body 3.1x3.1mm, Pitch 0.65mm, Thermal Pad 1.89x1.57mm, IPC Medium Density)
footprint TI-DGN8-1760X1425TP_L (SOP, 8-Leads, Body 3.1x3.1mm, Pitch 0.65mm, Thermal Pad 1.89x1.57mm, IPC High Density)
footprint TI-DGN8-1760X1425TP_M (SOP, 8-Leads, Body 3.1x3.1mm, Pitch 0.65mm, Thermal Pad 1.89x1.57mm, IPC Low Density)
pins: 1 ~{SHUTDOWN} (in) "Shutdown terminal (active low logic)", 2 BYPASS "Mid-supply voltage. Adding a bypass capacitor improves PSRR.", 3 IN+ (in) "Positive differential input", 4 IN- (in) "Negative differential input", 5 VO+ (out) "Positive BTL output", 6 VDD (power) "Supply voltage terminal", 7 GND (power) "High-current ground", 8 VO- (out) "Negative BTL output", 9 EP (power) "Connect to ground. Thermal pad must be soldered down in all applications to properly secure device on the PCB."

## TPA6203A1DGNR
designator U?
1.25-W Mono, Fully Differential, Class-AB Audio Amplifier, -40 to 85 degC, 8-pin SOP (DGN8), Green (RoHS & no Sb/Br); Manufacturer: Texas Instruments; PartNumber: TPA6203A1DGNR; Output Power(W): 1.25; PSRR(dB): -90; SubFamily: Dynamic Speaker; Supply Max(Max)(Volt): 5.5; Supply Min(Min)(Volt): 2.5; DatasheetVersion: SLOS364F; PackageVersion: 4073271/F, 05/2011; PackageReference: DGN8-1760X1425TP; PackageDescription: 8-Pin Plastic Small Outline, Body 3 x 3 mm, Pitch 0.65 mm; Supplier 1: Digi-Key; Supplier Part Number 1: 296-19604-2-ND; Supplier 2: Digi-Key; Supplier Part Number 2: 296-19604-1-ND; Supplier 3: Digi-Key; Supplier Part Number 3: 296-19604-6-ND; Supplier 4: Farnell; Supplier Part Number 4: 1697161; Supplier 5: Newark; Supplier Part Number 5: 81K4127; Supplier 6: Mouser; Supplier Part Number 6: 595-TPA6203A1DGNR; Eco-Plan: Green (RoHS & no Sb/Br); Speaker Amp Type: Class-AB; Speaker Channels: Mono; Mounting Technology: Surface Mount; Code_JEDEC: MO-187; ComponentLink1Description: Manufacturer URL; ComponentLink1URL: http://www.ti.com/; ComponentLink2Description: Datasheet; ComponentLink2URL: http://www.ti.com/general/docs/lit/getliterature.tsp?genericPartNumber=TPA6203A1&fileType=pdf; ComponentLink3Description: Package Specification; ComponentLink3URL: http://www.ti.com/litv/pdf/mpds046e
footprint TI-DGN8-1760X1425TP_N (SOP, 8-Leads, Body 3.1x3.1mm, Pitch 0.65mm, Thermal Pad 1.89x1.57mm, IPC Medium Density)
footprint TI-DGN8-1760X1425TP_L (SOP, 8-Leads, Body 3.1x3.1mm, Pitch 0.65mm, Thermal Pad 1.89x1.57mm, IPC High Density)
footprint TI-DGN8-1760X1425TP_M (SOP, 8-Leads, Body 3.1x3.1mm, Pitch 0.65mm, Thermal Pad 1.89x1.57mm, IPC Low Density)
pins: 1 ~{SHUTDOWN} (in) "Shutdown terminal (active low logic)", 2 BYPASS "Mid-supply voltage. Adding a bypass capacitor improves PSRR.", 3 IN+ (in) "Positive differential input", 4 IN- (in) "Negative differential input", 5 VO+ (out) "Positive BTL output", 6 VDD (power) "Supply voltage terminal", 7 GND (power) "High-current ground", 8 VO- (out) "Negative BTL output", 9 EP (power) "Connect to ground. Thermal pad must be soldered down in all applications to properly secure device on the PCB."

## TPA6203A1DGNRG4
designator U?
1.25-W Mono, Fully Differential, Class-AB Audio Amplifier, -40 to 85 degC, 8-pin SOP (DGN8), Green (RoHS & no Sb/Br); Manufacturer: Texas Instruments; PartNumber: TPA6203A1DGNRG4; Output Power(W): 1.25; PSRR(dB): -90; SubFamily: Dynamic Speaker; Supply Max(Max)(Volt): 5.5; Supply Min(Min)(Volt): 2.5; DatasheetVersion: SLOS364F; PackageVersion: 4073271/F, 05/2011; PackageReference: DGN8-1760X1425TP; PackageDescription: 8-Pin Plastic Small Outline, Body 3 x 3 mm, Pitch 0.65 mm; Supplier 1: Digi-Key; Supplier Part Number 1: TPA6203A1DGNRG4-ND; Supplier 2: Newark; Supplier Part Number 2: 85K1677; Supplier 3: Mouser; Supplier Part Number 3: 595-TPA6203A1DGNRG4; Eco-Plan: Green (RoHS & no Sb/Br); Speaker Amp Type: Class-AB; Speaker Channels: Mono; Mounting Technology: Surface Mount; Code_JEDEC: MO-187; ComponentLink1Description: Manufacturer URL; ComponentLink1URL: http://www.ti.com/; ComponentLink2Description: Datasheet; ComponentLink2URL: http://www.ti.com/general/docs/lit/getliterature.tsp?genericPartNumber=TPA6203A1&fileType=pdf; ComponentLink3Description: Package Specification; ComponentLink3URL: http://www.ti.com/litv/pdf/mpds046e
footprint TI-DGN8-1760X1425TP_N (SOP, 8-Leads, Body 3.1x3.1mm, Pitch 0.65mm, Thermal Pad 1.89x1.57mm, IPC Medium Density)
footprint TI-DGN8-1760X1425TP_L (SOP, 8-Leads, Body 3.1x3.1mm, Pitch 0.65mm, Thermal Pad 1.89x1.57mm, IPC High Density)
footprint TI-DGN8-1760X1425TP_M (SOP, 8-Leads, Body 3.1x3.1mm, Pitch 0.65mm, Thermal Pad 1.89x1.57mm, IPC Low Density)
pins: 1 ~{SHUTDOWN} (in) "Shutdown terminal (active low logic)", 2 BYPASS "Mid-supply voltage. Adding a bypass capacitor improves PSRR.", 3 IN+ (in) "Positive differential input", 4 IN- (in) "Negative differential input", 5 VO+ (out) "Positive BTL output", 6 VDD (power) "Supply voltage terminal", 7 GND (power) "High-current ground", 8 VO- (out) "Negative BTL output", 9 EP (power) "Connect to ground. Thermal pad must be soldered down in all applications to properly secure device on the PCB."

## TPA6203A1DRB
designator U?
1.25-W Mono, Fully Differential, Class-AB Audio Amplifier, -40 to 85 degC, 8-pin SON (DRB8), Green (RoHS & no Sb/Br); Manufacturer: Texas Instruments; PartNumber: TPA6203A1DRB; Output Power(W): 1.25; PSRR(dB): -90; SubFamily: Dynamic Speaker; Supply Max(Max)(Volt): 5.5; Supply Min(Min)(Volt): 2.5; DatasheetVersion: SLOS364F; PackageVersion: 4203482-2/K, 06/2012; PackageReference: DRB8-1750X1500TP; PackageDescription: 8-Pin Plastic Small Outline, Body 3 x 3 mm, Pitch 0.65 mm; Supplier 1: Digi-Key; Supplier Part Number 1: 296-34561-5-ND; Supplier 2: Newark; Supplier Part Number 2: 54K1506; Supplier 3: Mouser; Supplier Part Number 3: 595-TPA6203A1DRB; Eco-Plan: Green (RoHS & no Sb/Br); Speaker Amp Type: Class-AB; Speaker Channels: Mono; Mounting Technology: Surface Mount; ComponentLink1Description: Manufacturer URL; ComponentLink1URL: http://www.ti.com/; ComponentLink2Description: Datasheet; ComponentLink2URL: http://www.ti.com/general/docs/lit/getliterature.tsp?genericPartNumber=TPA6203A1&fileType=pdf; ComponentLink3Description: Package Specification; ComponentLink3URL: http://www.ti.com/litv/pdf/mpds118h
footprint TI-DRB8-1750X1500TP_V (SON, 8-Leads, Body 3x3mm, Pitch 0.65mm, Thermal Pad 1.50 x 3.8mm)
pins: 1 ~{SHUTDOWN} (in) "Shutdown terminal (active low logic)", 2 BYPASS "Mid-supply voltage. Adding a bypass capacitor improves PSRR.", 3 IN+ (in) "Positive differential input", 4 IN- (in) "Negative differential input", 5 VO+ (out) "Positive BTL output", 6 VDD (power) "Supply voltage terminal", 7 GND (power) "High-current ground", 8 VO- (out) "Negative BTL output", 9 EP (power) "Connect to ground. Thermal pad must be soldered down in all applications to properly secure device on the PCB."